# Altium footprint library L77TSEH09SOL2.PcbLib: 1 footprints
Each footprint in its own frame and in the unit in brackets; x right, y up, seen from the top. Pads: shape width x height; smd on the part's side, far side on the other; paste and mask are expansions set on the pad; w line width, h text height; cw(c..) or ccw(c..) is an arc to the next point about the centre after c.
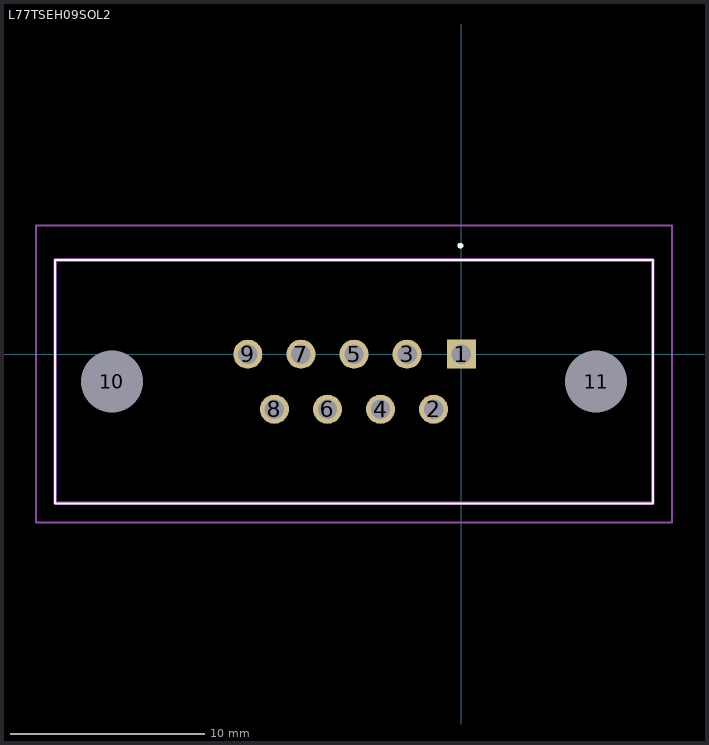
[diagram p0: the footprint, top view; thin cyan lines are the x and y axes]

## L77TSEH09SOL2 [mm]
pads (11):
  rect 1.5x1.5 hole 1: 1(0,0)
  round 1.5 hole 1: 2(-1.43,-2.84) 3(-2.8,0) 4(-4.17,-2.84) 5(-5.54,0) 6(-6.91,-2.84) 7(-8.28,0) 8(-9.65,-2.84) 9(-11.02,0)
  round 1.6 hole 3.2 unplated: 10(-18.035,-1.42) 11(6.955,-1.42)
Top Overlay:
  lines w0.1: -20.96,-7.695 9.88,-7.695 9.88,4.855 -20.96,4.855 -20.96,-7.695
  lines w0.2: -0.1,5.6 -0.1,5.6 ; -0.1,5.6 ccw(c-0.05,5.6) 0,5.6 ; -0.1,5.6 cw(c-0.05,5.6) 0,5.6 ; -0.1,5.6 -0.1,5.6 ; -0.1,5.6 ccw(c-0.05,5.6) 0,5.6 ; 0,5.6 0,5.6
Mechanical 15:
  lines w0.2: -20.96,-7.695 9.88,-7.695 9.88,4.855 -20.96,4.855 -20.96,-7.695
Mechanical 20:
  lines w0.1: -21.96,-8.695 10.88,-8.695 10.88,6.65 -21.96,6.65 -21.96,-8.695